# Altium schematic symbol library SK56.SchLib: 1 symbol
Pins are listed as number, name and electrical type; pins without a type are passive.

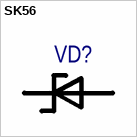
[diagram p0: symbol SK56]

## SK56
designator VD?  (value not drawn)
5 A Schottky barrier rectifier; Type: Диод; ManufacturerPartNumber: SK56
footprint DO-214AB (Molded Diode, 2-Leads, Body 6,60x5,60mm, IPC Medium Density)
footprint DO-214AA (Molded Diode, 2-Leads,)
pins: 1 Cathode, 2 Anode